# Altium footprint library LTST-C170KGKT.PcbLib: 1 footprints
Each footprint in its own frame and in the unit in brackets; x right, y up, seen from the top. Pads: shape width x height; smd on the part's side, far side on the other; paste and mask are expansions set on the pad; w line width, h text height; cw(c..) or ccw(c..) is an arc to the next point about the centre after c.
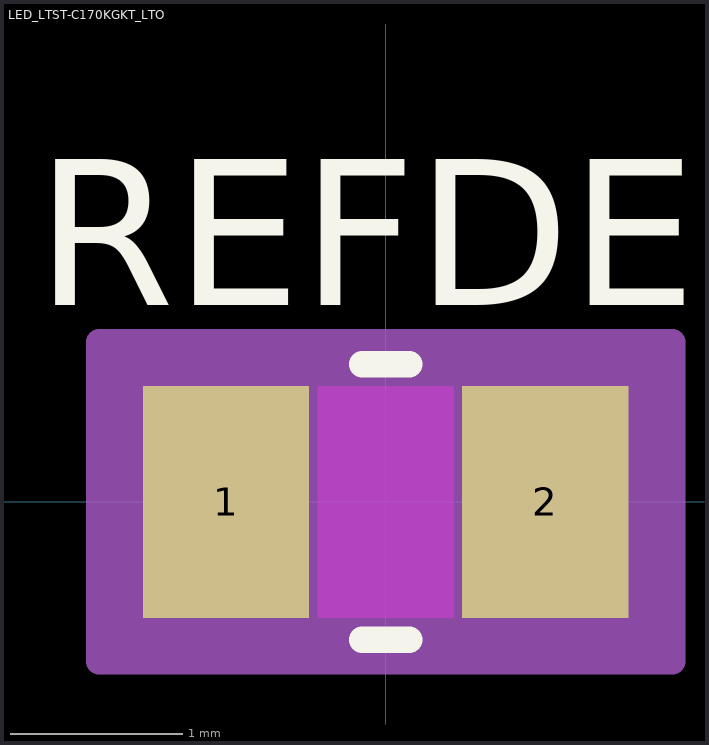
[diagram p0: the footprint, top view; thin cyan lines are the x and y axes]

## LED_LTST-C170KGKT_LTO [mil]
pads (2):
  rect 38x53 smd paste+0 mask+0: 1(-36.5,0) 2(36.5,0)
Top Layer keep-out:
  region: -15.5,-24.5 -15.5,24.5 15.5,24.5 15.5,-24.5
Top Overlay:
  lines w6: -5.39,-31.5 5.39,-31.5 ; -5.39,31.5 5.39,31.5
  text "REFDES" at -80,45 h50
Keep-Out Layer:
  region: -15.5,-26.5 -15.5,26.5 15.5,26.5 15.5,-26.5
Mechanical 13:
  lines w1: -41.5,-26.5 -41.5,26.5 ; -41.5,-26.5 41.5,-26.5 ; -41.5,-26.5 -17.5,-26.5 -17.5,26.5 -41.5,26.5 ; -41.5,-26.5 -41.5,26.5 ; -41.5,26.5 41.5,26.5 ; 41.5,-26.5 41.5,26.5 ; 41.5,-26.5 41.5,26.5 ; 41.5,-26.5 17.5,-26.5 17.5,26.5 41.5,26.5
Mechanical 15:
  region: 65.5,-36.5 -65.5,-36.5 -65.5,36.5 65.5,36.5
  lines w6: -65.5,-36.5 65.5,-36.5 65.5,36.5 -65.5,36.5 -65.5,-36.5